# Altium schematic symbol library LTC2802.SchLib: 1 symbol
Pins are listed as number, name and electrical type; pins without a type are passive.

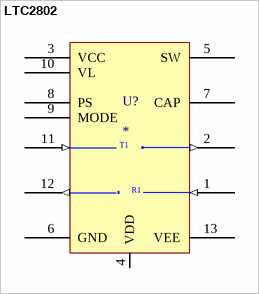
[diagram p0: symbol LTC2802]

## LTC2802
designator U?
LTC2802 1.8V to 5.5V RS-232  Single Transceiver; Vendor: Linear Technology; Part No.: LTC2802; Manufacturer: Linear Technology; Price Est.: $2.36
footprint DFN-127 4mmx3mm
pins: 1 RIN (in), 2 TOUT (out), 3 VCC, 4 VDD, 5 SW, 6 GND, 7 CAP, 8 PS, 9 MODE, 10 VL, 11 TIN (in), 12 ROUT (out), 13 VEE
text: T1; R1